# Altium schematic symbol library 688004113322.SchLib: 1 symbol
Pins are listed as number, name and electrical type; pins without a type are passive.

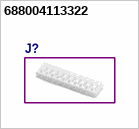
[diagram p0: symbol 688004113322]

## 688004113322
designator J?  (value not drawn)